# EAGLE library part 750510204 (library Midcom Inc - EAGLE Lib V2-0)
Package Style: EP13 Mounting: SMD Pins: 12 pins Bobbin: 070-5511 Best pinouts for production vary per application. Please contact Wurth Electronics Midcom, Inc. for assistance with your custom design. Website: Wurth Electronics Midcom <http://www.we-online.com/midcom> Contact us Wurth Electronics Midcom, Inc. 121 Airport Dr. Watertown, SD 57201 Phone: (605) 886-4385 Fax: (605) 886-4486 E-Mail: midcom@we-online.com
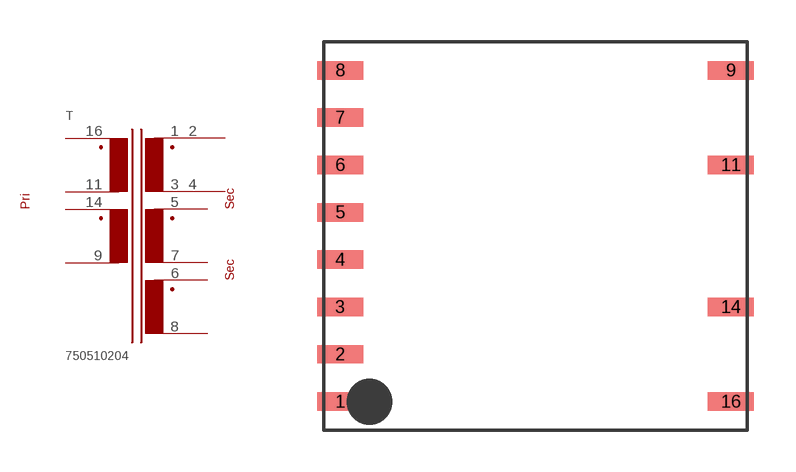
[diagram p239: symbol with the pads of EP13_SMD_H_12PIN_(5511); footprint EP13_SMD_H_12PIN_(5511)]

Designator prefix T

## 750510204  [EP13_SMD_H_12PIN_(5511)]
1  1  pas
2  2  pas
3  3  pas
4  4  pas
5  5  pas
6  6  pas
7  7  pas
8  8  pas
9  9  pas
11  11  pas
14  14  pas
16  16  pas

## Footprint EP13_SMD_H_12PIN_(5511) (pad centres in mm)
Package Style: EP13 Mounting: SMD Pins: 16 Bobbin: 070-5511
smd 1.651 x 0.66: 1 -7.023,-5.956; 2 -7.023,-4.255; 3 -7.023,-2.553; 4 -7.023,-0.851; 5 -7.023,0.851; 6 -7.023,2.553; 7 -7.023,4.255; 8 -7.023,5.956; 9 7.023,5.956; 11 7.023,2.553; 14 7.023,-2.553; 16 7.023,-5.956